# Altium footprint library QUARTZ_RESONATOR.PcbLib: 4 footprints
Each footprint in its own frame and in the unit in brackets; x right, y up, seen from the top. Pads: shape width x height; smd on the part's side, far side on the other; paste and mask are expansions set on the pad; w line width, h text height; cw(c..) or ccw(c..) is an arc to the next point about the centre after c.
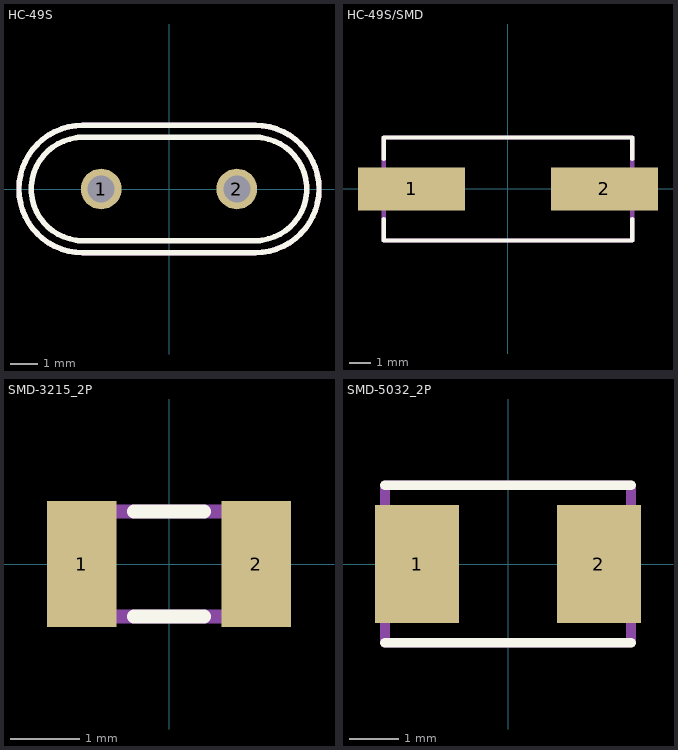
[diagram p0: the footprints below, top view; thin cyan lines are the x and y axes]

## HC-49S [mm]
pads (2):
  round 1.5 hole 1: 1(-2.5,0) 2(2.5,0)
Top Overlay:
  lines w0.2: -3.35,-1.9 3.35,-1.9 ; -3.35,1.9 3.35,1.9 ; -3.175,-1.9 cw(c-3.175,0) -3.175,1.9 ; 3.175,-1.9 ccw(c3.175,0) 3.175,1.9 ; -3.175,-2.35 cw(c-3.175,0) -3.175,2.35 3.175,2.35 cw(c3.175,0) 3.175,-2.35 -3.175,-2.35
Top Assembly:
  lines w0.2: -3.175,-2.35 cw(c-3.175,0) -3.175,2.35 3.175,2.35 cw(c3.175,0) 3.175,-2.35 -3.175,-2.35
3D body "User Library-HC-49-1.STEP": height 3.5, standoff -2.25, extent -5.6,-2.3 5.6,2.3

## HC-49S/SMD [mm]
pads (2):
  rect 5x2 smd: 1(-4.5,0) 2(4.5,0)
Top Overlay:
  lines w0.2: -5.8,-1.4 -5.8,-2.4 0,-2.4 5.8,-2.4 5.8,-1.4 ; -5.8,1.4 -5.8,2.4 0,2.4 5.8,2.4 5.8,1.4
Top Assembly:
  lines w0.2: -5.8,-2.4 -5.8,2.4 5.8,2.4 5.8,-2.4 -5.8,-2.4
3D body "User Library-Crystal HC49_US-SM.STEP": height 4.35, standoff 0.05, extent -6.4,-2.415 6.4,2.415

## SMD-3215_2P [mm]
pads (2):
  rect 1x1.8 smd: 1(-1.25,0) 2(1.25,0)
Top Overlay:
  lines w0.2: -0.5,-0.75 0.5,-0.75 ; -0.5,0.75 0.5,0.75
Top Assembly:
  lines w0.2: -1.6,-0.75 -1.6,0.75 1.6,0.75 1.6,-0.75 -1.6,-0.75
3D body "User Library-Siward_SX3215.STEP": height 0.81, standoff 0, extent -1.6,-0.75 1.6,0.75

## SMD-5032_2P [mm]
pads (2):
  rect 1.7x2.4 smd: 1(-1.85,0) 2(1.85,0)
Top Overlay:
  lines w0.2: -2.5,-1.6 2.5,-1.6 ; -2.5,1.6 2.5,1.6
Top Assembly:
  lines w0.2: 2.5,1.6 -2.5,1.6 -2.5,-1.6 2.5,-1.6 2.5,1.6 ; 2.5,1.6 2.5,1.6
3D body "User Library-cry_5032.STEP": height 1.3, standoff 0, extent -2.5,-1.6 2.5,1.6